# Altium footprint library AMPHENOL_OQ0471510000G.PcbLib: 1 footprints
Each footprint in its own frame and in the unit in brackets; x right, y up, seen from the top. Pads: shape width x height; smd on the part's side, far side on the other; paste and mask are expansions set on the pad; w line width, h text height; cw(c..) or ccw(c..) is an arc to the next point about the centre after c.
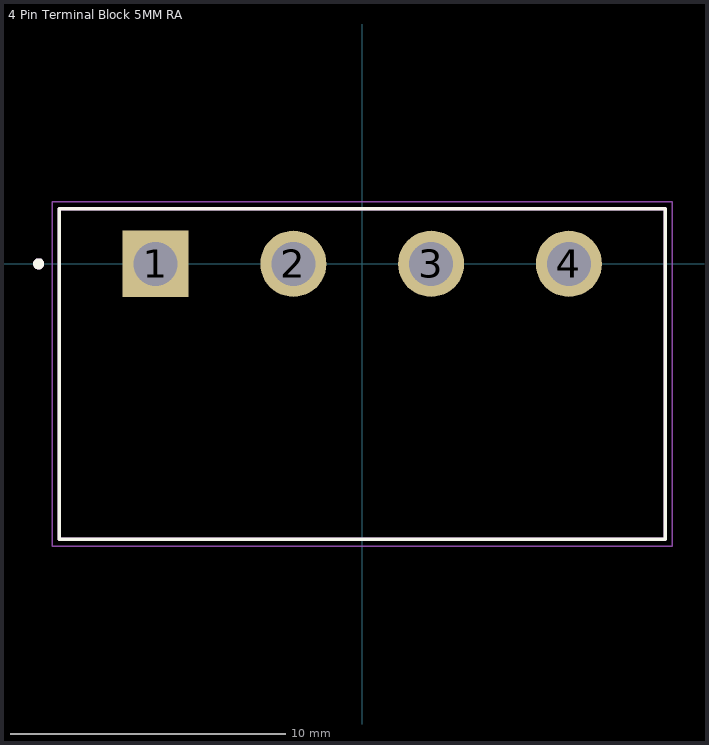
[diagram p0: the footprint, top view; thin cyan lines are the x and y axes]

## 4 Pin Terminal Block 5MM RA [mm] "4 Pin Terminal Block HDR 5MM THT RA OQ0471510000G"
pads (4):
  rect 2.4x2.4 hole 1.6: 1(-7.5,0)
  round 2.4 hole 1.6: 2(-2.5,0) 3(2.5,0) 4(7.5,0)
Top Overlay:
  circle w0.2: c-11.75,0 r0.1
  lines w0.127: -11,-10 -11,2 11,2 11,-10 -11,-10
Mechanical 13:
  circle w0.2: c-11.75,0 r0.1
  lines w0.127: -11,-10 -11,2 11,2 11,-10 -11,-10
Mechanical 15:
  lines w0.05: -11.25,-10.25 -11.25,2.25 11.25,2.25 11.25,-10.25 -11.25,-10.25
3D body "796700-4--3DModel-STEP-510211.STEP": height 8.5, standoff -3.5, extent -11.254,-10.064 10.746,1.936